# Altium integrated library STM32G441KBT3.IntLib: 2 symbols
Pins are listed as number, name and electrical type; pins without a type are passive.

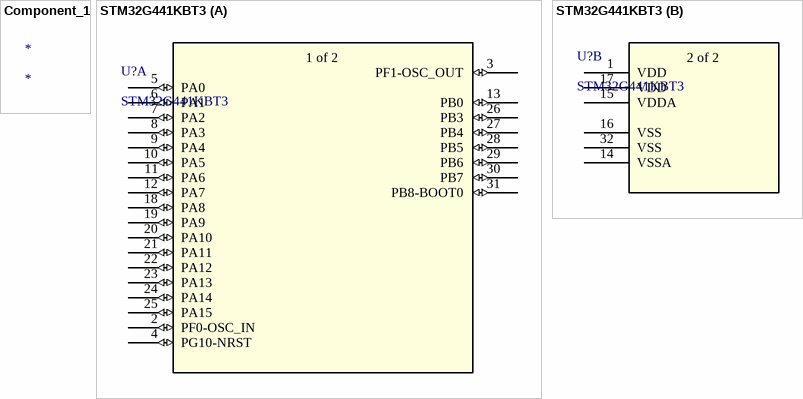
[diagram p0: symbols Component_1 to STM32G441KBT3]

## Component_1
designator *
footprint LQFP32_7X7_STM

## STM32G441KBT3
designator U?
No Description Available; SourceLibrary: Add_to_database_2020-11-05; Built_By: EMA_Cory; Vendor: STMicroelectronics; Datasheet: https://www.st.com/resource/en/datasheet/stm32g441kb.pdf; Copyright: Copyright (C) 2018 Accelerated Designs. All rights reserved; Manufacturer_Part_Number: STM32G441KBT3; RefDes: RefDes; Type: DEV
footprint LQFP32_7X7_STM
part A pins: 2 PF0-OSC_IN (io), 3 PF1-OSC_OUT (io), 4 PG10-NRST (io), 5 PA0 (io), 6 PA1 (io), 7 PA2 (io), 8 PA3 (io), 9 PA4 (io), 10 PA5 (io), 11 PA6 (io), 12 PA7 (io), 13 PB0 (io), 18 PA8 (io), 19 PA9 (io), 20 PA10 (io), 21 PA11 (io), 22 PA12 (io), 23 PA13 (io), 24 PA14 (io), 25 PA15 (io), 26 PB3 (io), 27 PB4 (io), 28 PB5 (io), 29 PB6 (io), 30 PB7 (io), 31 PB8-BOOT0 (io)
part B pins: 1 VDD (power), 14 VSSA, 15 VDDA (power), 16 VSS, 17 VDD (power), 32 VSS
part A text: 1 of 2
part B text: 2 of 2